# EAGLE library part OLIMEX_2148 (library paparazzi)
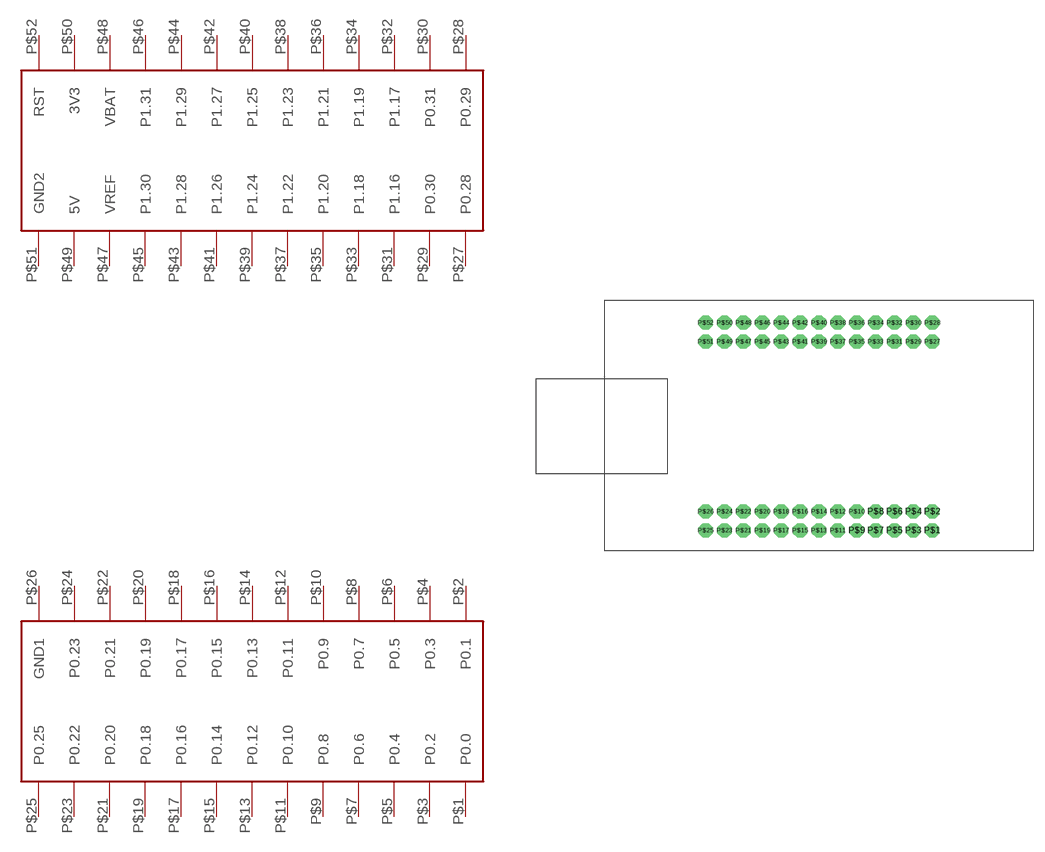
[diagram p50: symbol with the pads of OLIMEX_2148; footprint OLIMEX_2148]

Designator prefix -

## OLIMEX_2148  [OLIMEX_2148]
P$1  P0.0
P$2  P0.1
P$3  P0.2
P$4  P0.3
P$5  P0.4
P$6  P0.5
P$7  P0.6
P$8  P0.7
P$9  P0.8
P$10  P0.9
P$11  P0.10
P$12  P0.11
P$13  P0.12
P$14  P0.13
P$15  P0.14
P$16  P0.15
P$17  P0.16
P$18  P0.17
P$19  P0.18
P$20  P0.19
P$21  P0.20
P$22  P0.21
P$23  P0.22
P$24  P0.23
P$25  P0.25
P$26  GND1
P$27  P0.28
P$28  P0.29
P$29  P0.30
P$30  P0.31
P$31  P1.16
P$32  P1.17
P$33  P1.18
P$34  P1.19
P$35  P1.20
P$36  P1.21
P$37  P1.22
P$38  P1.23
P$39  P1.24
P$40  P1.25
P$41  P1.26
P$42  P1.27
P$43  P1.28
P$44  P1.29
P$45  P1.30
P$46  P1.31
P$47  VREF
P$48  VBAT
P$49  5V
P$50  3V3
P$51  GND2
P$52  RST

## Footprint OLIMEX_2148 (pad centres in mm)
drill 1.016 pad 1.905 octagon: P$1 15.24,-13.97; P$2 15.24,-11.43; P$3 12.7,-13.97; P$4 12.7,-11.43; P$5 10.16,-13.97; P$6 10.16,-11.43; P$7 7.62,-13.97; P$8 7.62,-11.43; P$9 5.08,-13.97; P$10 5.08,-11.43; P$11 2.54,-13.97; P$12 2.54,-11.43; P$13 0,-13.97; P$14 0,-11.43; P$15 -2.54,-13.97; P$16 -2.54,-11.43; P$17 -5.08,-13.97; P$18 -5.08,-11.43; P$19 -7.62,-13.97; P$20 -7.62,-11.43; P$21 -10.16,-13.97; P$22 -10.16,-11.43; P$23 -12.7,-13.97; P$24 -12.7,-11.43; P$25 -15.24,-13.97; P$26 -15.24,-11.43; P$27 15.24,11.43; P$28 15.24,13.97; P$29 12.7,11.43; P$30 12.7,13.97; P$31 10.16,11.43; P$32 10.16,13.97; P$33 7.62,11.43; P$34 7.62,13.97; P$35 5.08,11.43; P$36 5.08,13.97; P$37 2.54,11.43; P$38 2.54,13.97; P$39 0,11.43; P$40 0,13.97; P$41 -2.54,11.43; P$42 -2.54,13.97; P$43 -5.08,11.43; P$44 -5.08,13.97; P$45 -7.62,11.43; P$46 -7.62,13.97; P$47 -10.16,11.43; P$48 -10.16,13.97; P$49 -12.7,11.43; P$50 -12.7,13.97; P$51 -15.24,11.43; P$52 -15.24,13.97